# Altium schematic symbol library WearTechSchLib.SchLib: 13 symbols
Pins are listed as number, name and electrical type; pins without a type are passive.

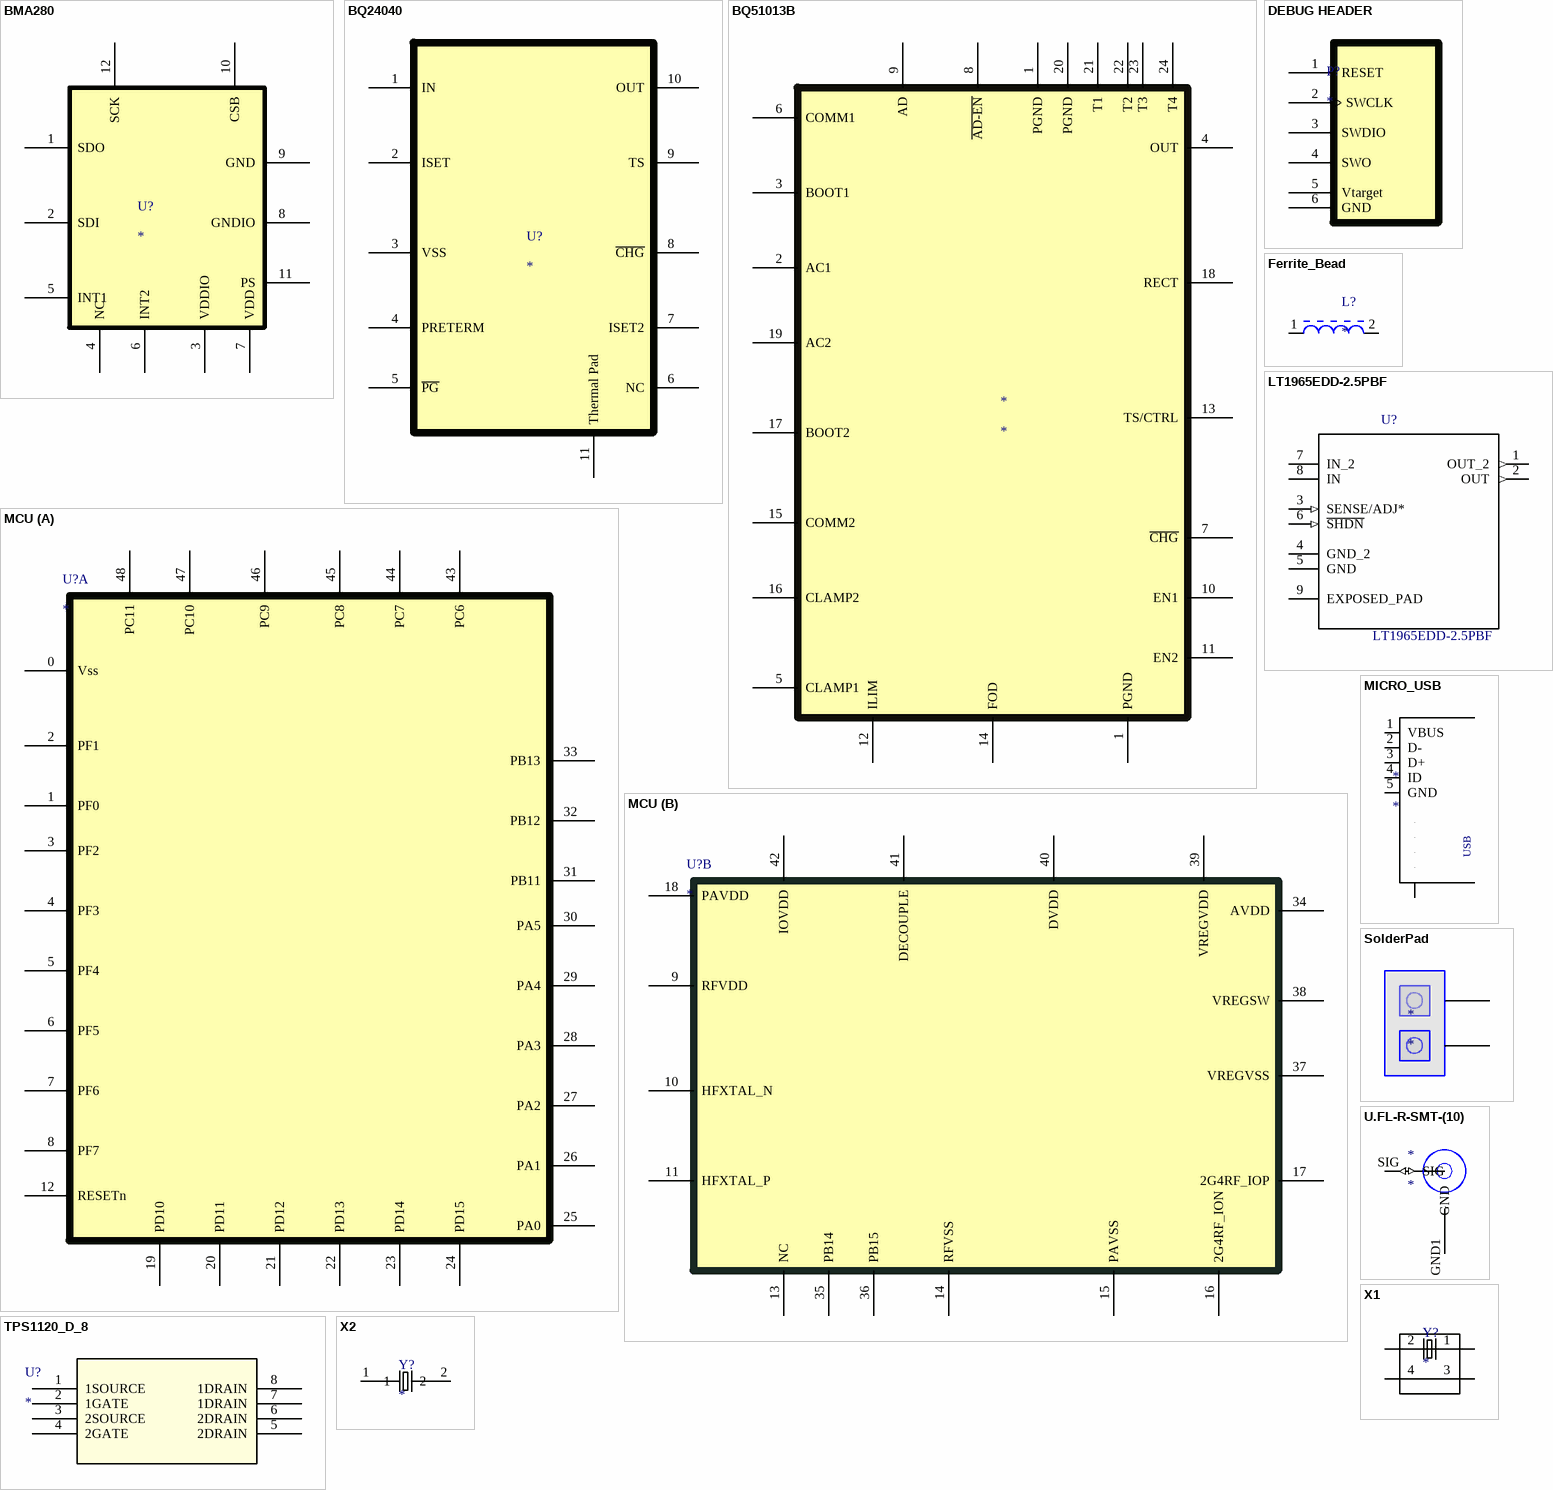
[diagram p0: symbols BMA280 to X2]

## BMA280
designator U?
footprint QFN50P200X200X100-12N (QFN, 12-Leads, Body 2.00x2.00mm, Pitch 0.50mm, IPC Medium Density)
pins: 1 SDO, 2 SDI, 3 VDDIO, 4 NC, 5 INT1, 6 INT2, 7 VDD, 8 GNDIO, 9 GND, 10 CSB, 11 PS, 12 SCK

## BQ24040
designator U?
footprint BQ24040
pins: 1 IN, 2 ISET, 3 VSS, 4 PRETERM, 5 ~{PG}, 6 NC, 7 ISET2, 8 ~{CHG}, 9 TS, 10 OUT, 11 Thermal Pad

## BQ51013B
designator *
footprint QFN-20(VQFN-20)
footprint BQ51013B
pins: 1 PGND, 1 PGND, 2 AC1, 3 BOOT1, 4 OUT, 5 CLAMP1, 6 COMM1, 7 ~{CHG}, 8 ~{AD-EN}, 9 AD, 10 EN1, 11 EN2, 12 ILIM, 13 TS/CTRL, 14 FOD, 15 COMM2, 16 CLAMP2, 17 BOOT2, 18 RECT, 19 AC2, 20 PGND, 21 T1, 22 T2, 23 T3, 24 T4

## DEBUG HEADER
designator P?
pins: 1 RESET, 2 SWCLK, 3 SWDIO, 4 SWO, 5 Vtarget, 6 GND

## Ferrite_Bead
designator L?
footprint 1608[0603] (Footprint not found)
pins: 1, 2

## LT1965EDD-2.5PBF
designator U?
PMIC - LDO voltage regulator Linear Technology LT1965EDD-2.5#PBF Positive, fixed DFN 8 (3x3); Price: 2.66 USD; Availability: Warning; MF: Linear Technology; MP: LT1965EDD-2.5#PBF; Package: DFN-8 Linear Technology; Value: *
footprint LT1965
pins: 1 OUT_2 (out), 2 OUT (out), 3 SENSE/ADJ* (in), 4 GND_2, 5 GND, 6 ~{SHDN} (in), 7 IN_2 (power), 8 IN (power), 9 EXPOSED_PAD

## MCU
designator U?
footprint QFN50P700X700X90_HS-49N (QFN, 48-Leads, Body 7.00x7.00mm, Pitch 0.50mm, Thermal Pad 5.30x5.30mm, IPC Medium Density)
part A pins: 0 Vss, 1 PF0, 2 PF1, 3 PF2, 4 PF3, 5 PF4, 6 PF5, 7 PF6, 8 PF7, 12 RESETn, 19 PD10, 20 PD11, 21 PD12, 22 PD13, 23 PD14, 24 PD15, 25 PA0, 26 PA1, 27 PA2, 28 PA3, 29 PA4, 30 PA5, 31 PB11, 32 PB12, 33 PB13, 43 PC6, 44 PC7, 45 PC8, 46 PC9, 47 PC10, 48 PC11
part B pins: 9 RFVDD, 10 HFXTAL_N, 11 HFXTAL_P, 13 NC, 14 RFVSS, 15 PAVSS, 16 2G4RF_ION, 17 2G4RF_IOP, 18 PAVDD, 34 AVDD, 35 PB14, 36 PB15, 37 VREGVSS, 38 VREGSW, 39 VREGVDD, 40 DVDD, 41 DECOUPLE, 42 IOVDD

## MICRO_USB
designator *
footprint 10118192-0001LF_10118192-0001LF(Primary)
footprint MICRO USB
pins: 1 VBUS, 2 D-, 3 D+, 4 ID, 5 GND, M1 S, M2 S, S1 S, S2 S, S3 S, S4 S
text: USB

## SolderPad
designator *
pins: 1 BAT, 2 GND

## TPS1120_D_8
designator U?
Manufacturer_Part_Number: tps1120_d_8; GENERIC_PART_NUMBER: TPS1120; Vendor: Texas Instruments; PACKAGE_DESIGNATOR: D; PIN_COUNT: 8; FAMILY_NAME: PMOS SWITCH; INDUSTRY_STD_PKG_TYPE: SOIC; Manufacturer: Texas Instruments; Datasheet_URL: http://www.ti.com/lit/gpn/TPS1120; Value: Value; Type: Type; RefDes: RefDes
footprint BlockSwitch (SOIC, 8-Leads, Body 4.90x3.90mm, Pitch 1.27mm, IPC Medium Density)
pins: 1 1SOURCE, 2 1GATE, 3 2SOURCE, 4 2GATE, 5 2DRAIN, 6 2DRAIN, 7 1DRAIN, 8 1DRAIN

## U.FL-R-SMT-(10)
designator *
pins: GND1 GND, SIG (io)

## X1
designator Y?
pins: 1, 2, 3, 4

## X2
designator Y?
pins: 1, 2